# EAGLE library part AT89S52BASE (library soumilcustom)
Atmel AT89S52 Microcontroller Package(s): SOCKET-40 (IC Base and ZIF)
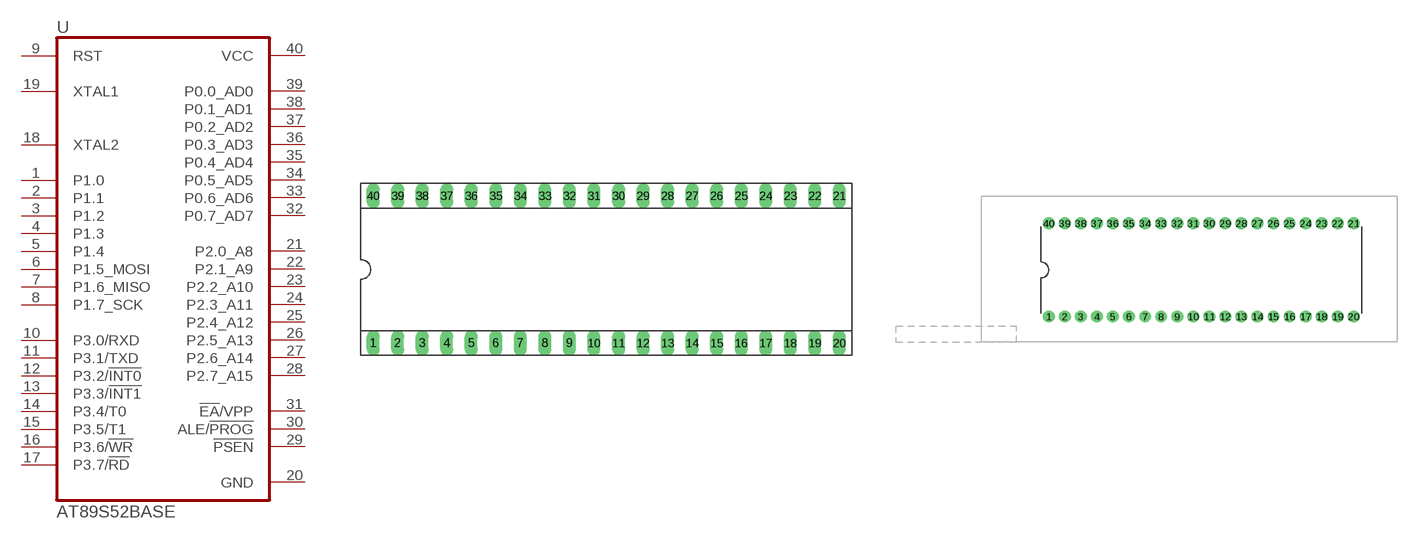
[diagram p8: symbol with the pads of SOCKET-40; footprints SOCKET-40, SOCKET40-ZIF]

Designator prefix -

## AT89S52BASESOCKET-40  [SOCKET-40]
1  P1.0
2  P1.1
3  P1.2
4  P1.3
5  P1.4
6  P1.5_MOSI
7  P1.6_MISO
8  P1.7_SCK
9  RST  in
10  P3.0/RXD
11  P3.1/TXD
12  P3.2/!INT0
13  P3.3/!INT1
14  P3.4/T0
15  P3.5/T1
16  P3.6/!WR
17  P3.7/!RD
18  XTAL2  in
19  XTAL1  in
20  GND  pwr
21  P2.0_A8
22  P2.1_A9
23  P2.2_A10
24  P2.3_A11
25  P2.4_A12
26  P2.5_A13
27  P2.6_A14
28  P2.7_A15
29  !PSEN  out
30  ALE/!PROG  out
31  !EA!/VPP  in
32  P0.7_AD7
33  P0.6_AD6
34  P0.5_AD5
35  P0.4_AD4
36  P0.3_AD3
37  P0.2_AD2
38  P0.1_AD1
39  P0.0_AD0
40  VCC  pwr

## AT89S52BASESOCKET-40ZIF  [SOCKET40-ZIF]
Pads as for SOCKET-40

## Footprint SOCKET-40 (pad centres in mm)
drill 0.813 long: 1 -22.86,-7.62; 2 -20.32,-7.62; 3 -17.78,-7.62; 4 -15.24,-7.62; 5 -12.7,-7.62; 6 -10.16,-7.62; 7 -7.62,-7.62; 8 -5.08,-7.62; 9 -2.54,-7.62; 10 0,-7.62; 11 2.54,-7.62; 12 5.08,-7.62; 13 7.62,-7.62; 14 10.16,-7.62; 15 12.7,-7.62; 16 15.24,-7.62; 17 17.78,-7.62; 18 20.32,-7.62; 19 22.86,-7.62; 20 25.4,-7.62; 21 25.4,7.62; 22 22.86,7.62; 23 20.32,7.62; 24 17.78,7.62; 25 15.24,7.62; 26 12.7,7.62; 27 10.16,7.62; 28 7.62,7.62; 29 5.08,7.62; 30 2.54,7.62; 31 0,7.62; 32 -2.54,7.62; 33 -5.08,7.62; 34 -7.62,7.62; 35 -10.16,7.62; 36 -12.7,7.62; 37 -15.24,7.62; 38 -17.78,7.62; 39 -20.32,7.62; 40 -22.86,7.62

## Footprint SOCKET40-ZIF (pad centres in mm)
ZIF (Zero Insertion Force) Socket 40 Pin
drill 1.016 pad 1.88: 1 -17.78,-7.366; 2 -15.24,-7.366; 3 -12.7,-7.366; 4 -10.16,-7.366; 5 -7.62,-7.366; 6 -5.08,-7.366; 7 -2.54,-7.366; 8 0,-7.366; 9 2.54,-7.366; 10 5.08,-7.366; 11 7.62,-7.366; 12 10.16,-7.366; 13 12.7,-7.366; 14 15.24,-7.366; 15 17.78,-7.366; 16 20.32,-7.366; 17 22.86,-7.366; 18 25.4,-7.366; 19 27.94,-7.366; 20 30.48,-7.366; 21 30.48,7.366; 22 27.94,7.366; 23 25.4,7.366; 24 22.86,7.366; 25 20.32,7.366; 26 17.78,7.366; 27 15.24,7.366; 28 12.7,7.366
drill 1.1 pad 1.88: 29 10.16,7.366; 30 7.62,7.366; 31 5.08,7.366; 32 2.54,7.366; 33 0,7.366; 34 -2.54,7.366; 35 -5.08,7.366; 36 -7.62,7.366; 37 -10.16,7.366; 38 -12.7,7.366; 39 -15.24,7.366; 40 -17.78,7.366